# Altium integrated library Analog Devices Data Converters Analog-to-Digital Converters.IntLib: 2400 symbols (part 95 of 338)
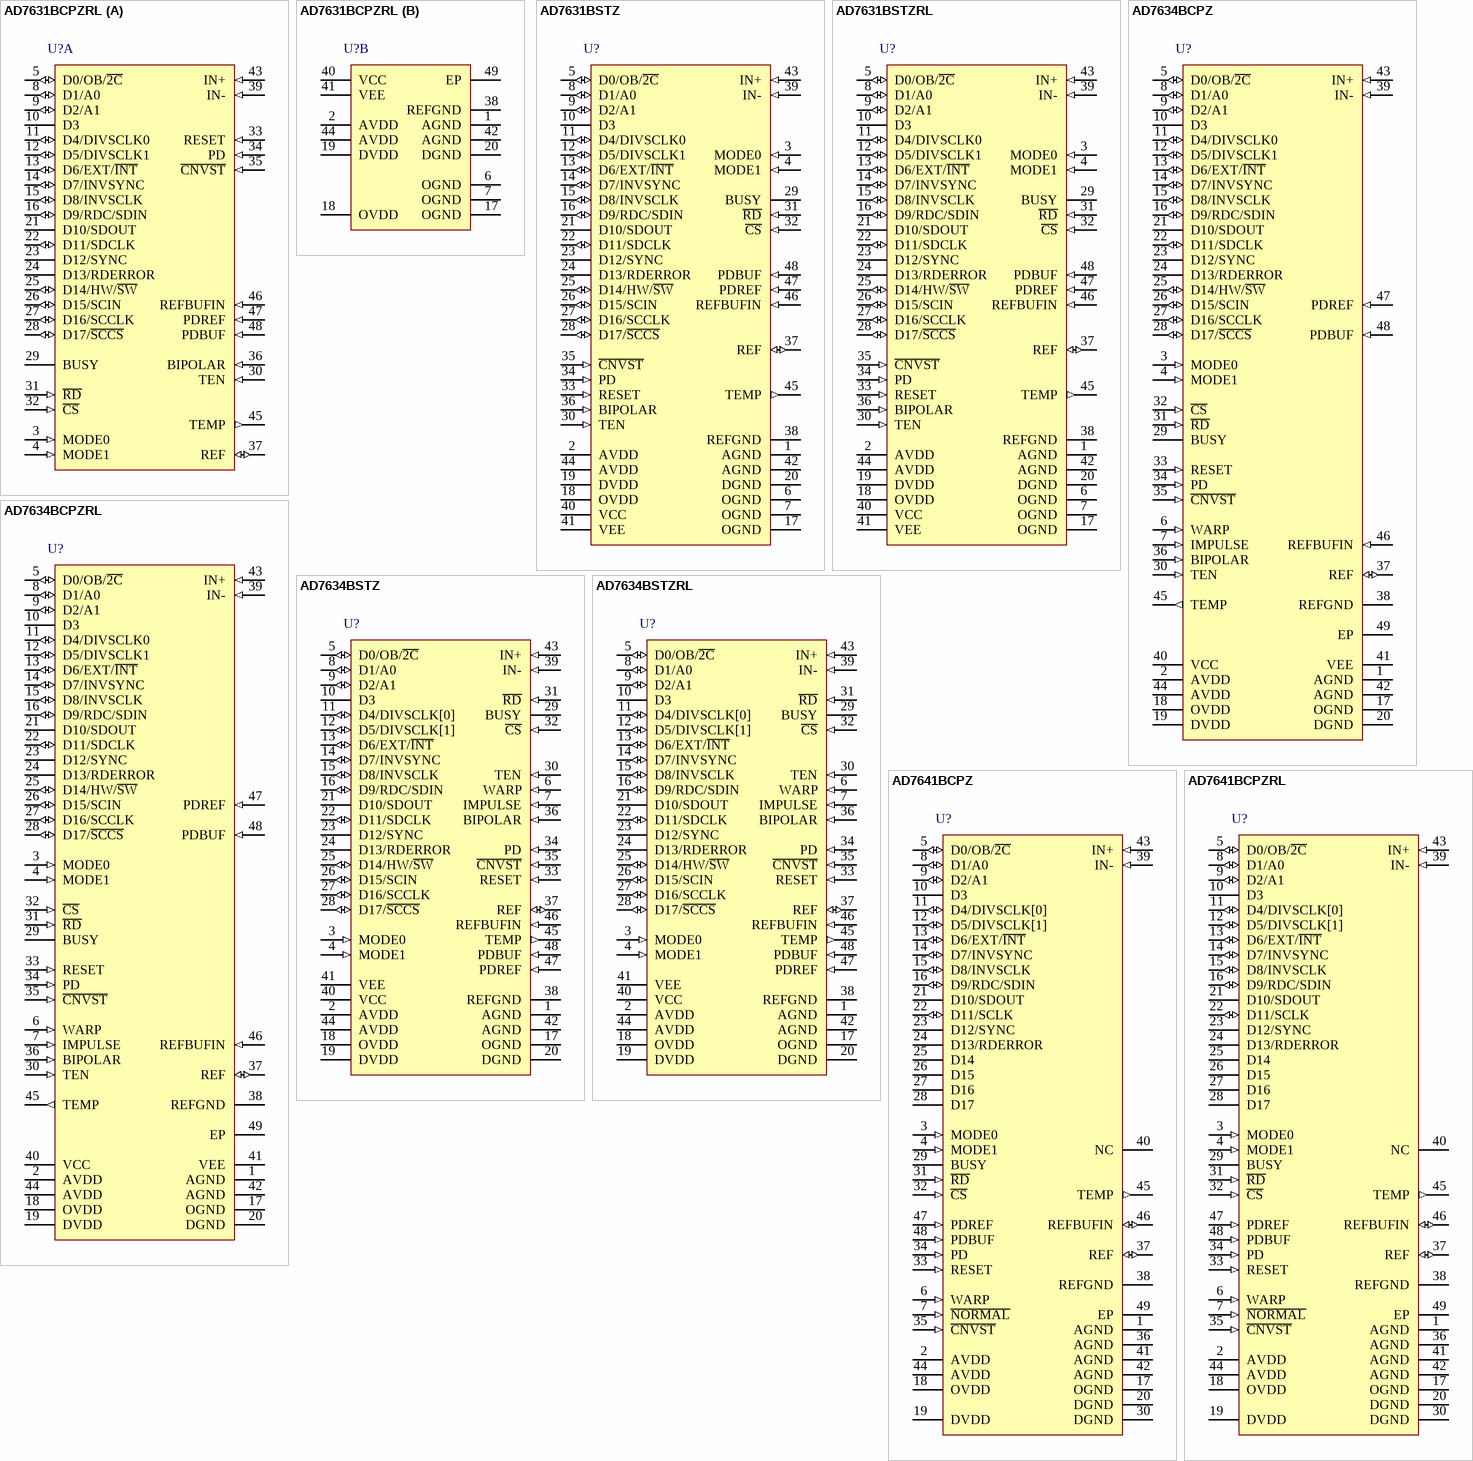
[diagram p210: symbols AD7631BCPZRL to AD7641BCPZRL]

## AD7634BCPZ
designator U?
Single 18-Bit Differential Programmable PulSAR Analog-to-Digital Converter with Byte, Parallel, Serial, SPI Interface, 670KSPS, -40 to +85 degC, CP-48-1, Pb-Free, Tray; Part Number: AD7634; Manufacturer: Analog Devices; Resolution (Bits): 18; Channels: 1; Throughput Rate (SPS): 670K; Interface: Byte, Par, Ser, SPI; DatasheetVersion: Rev.A; PackageVersion: Jan-2005; PackageReference: CP-48-1; PackageDescription: 48-Lead Lead Frame Chip Scale Package [LFCSP_VQ] 7 x 7 mm Body, Very Thin Quad; RoHS: Y; Packing: Tray; Mounting Technology: Surface Mount; Code_JEDEC: MO-220-VKKD-2; ComponentLink1Description: Manufacturer URL; ComponentLink1URL: http://www.analog.com/en/index.html; ComponentLink2Description: Datasheet; ComponentLink2URL: http://www.analog.com/static/imported-files/data_sheets/AD7634.pdf; ComponentLink3Description: Package Specification; ComponentLink3URL: http://www.analog.com/static/imported-files/packages/PKG_PDF/LFCSP(CP)/CP-48/CP_48_1.pdf; ComponentLink4Description: Product URL; ComponentLink4URL: http://www.analog.com/en/analog-to-digital-converters/ad-converters/ad7634/products/product.html
footprint CP-48-1_N (QFN, 48-Leads, Body 7x7mm, Pitch 0.5mm, Thermal Pad 5.1x5.1mm, IPC Medium Density)
footprint CP-48-1_L (QFN, 48-Leads, Body 7x7mm, Pitch 0.5mm, Thermal Pad 5.1x5.1mm, IPC High Density)
footprint CP-48-1_M (QFN, 48-Leads, Body 7x7mm, Pitch 0.5mm, Thermal Pad 5.1x5.1mm, IPC Low Density)
pins: 1 AGND (power) "Analog Power Ground Pins. Ground reference point for all analog I/O. All analog I/O should be referenced to AGND and should be connected to the analog ground plane of the system. In addition, the AGND, DGND, and OGND (See Datasheet)", 2 AVDD (power) "Analog Power Pins. Nominally 4.75 V to 5.25 V and decoupled with 10 uF and 100 nF capacitors.", 3 MODE0 (in) "Data Input/Output Interface Mode Selection.", 4 MODE1 (in) "Data Input/Output Interface Mode Selection.", 5 D0/OB/~{2C} (io) "In 18-bit parallel mode, this output is used as Bit 0 of the parallel port data output bus and the data coding is straight binary. In all other modes, this pin allows the choice of straight binary or twos complement. When (See Datasheet)", 6 WARP (in) "Conversion Mode Selection. See the Modes of Operation section for a more detailed description.", 7 IMPULSE (in) "Conversion Mode Selection. See the WARP pin description in this table. See the Modes of Operation section for a more detailed description.", 8 D1/A0 (io) "When MODE[1:0] = 0, this pin is Bit 1 of the parallel port data output bus. In all other modes, this input pin controls the form in which data is output as shown in Table 7.", 9 D2/A1 (io) "When MODE[1:0] = 0, this pin is Bit 2 of the parallel port data output bus. When MODE[1:0] = 1 or 2, this input pin controls the form in which data is output as shown in Table 7.", 10 D3 (hiz) "When MODE[1:0] = 0, 1, or 2, this output is used as Bit 3 of the parallel port data output bus. This pin is always an output, regardless of the interface mode.", 11 D4/DIVSCLK0 (io) "When MODE[1:0] = 0, 1, or 2, these pins are Bit 4 and Bit 5 of the parallel port data output bus. When MODE[1:0] = 3, serial data clock division selection. When using serial master read after convert mode (EXT/I\N\T\ = low, (See Datasheet)", 12 D5/DIVSCLK1 (io) "When MODE[1:0] = 0, 1, or 2, these pins are Bit 4 and Bit 5 of the parallel port data output bus. When MODE[1:0] = 3, serial data clock division selection. When using serial master read after convert mode (EXT/I\N\T\ = low, (See Datasheet)", 13 D6/EXT/~{INT} (io) "When MODE[1:0] = 0, 1, or 2, this output is used as Bit 6 of the parallel port data output bus. When MODE[1:0] = 3, Serial Data Clock Source Select. In serial mode, this input is used to select the internally generated (See Datasheet)", 14 D7/INVSYNC (io) "When MODE[1:0] = 0, 1, or 2, this output is used as Bit 7 of the parallel port data output bus. When MODE[1:0] = 3, Serial Data Invert Sync Select. In serial master mode (MODE[1:0] = 3, EXT/I\N\T\ = low), this input is used (See Datasheet)", 15 D8/INVSCLK (io) "When MODE[1:0] = 0, 1, or 2, this output is used as Bit 8 of the parallel port data output bus. When MODE[1:0] = 3, Invert SDCLK/SCCLK Select. This input is used to invert both SDCLK and SCCLK. When INVSCLK = low, the rising (See Datasheet)", 16 D9/RDC/SDIN (io) "When MODE[1:0] = 0, 1, or 2, this output is used as Bit 9 of the parallel port data output bus. When MODE[1:0] = 3, Serial Data Read During Convert. In serial master mode (MODE[1:0] = 3, EXT/I\N\T\ = low), RDC is used to (See Datasheet)", 17 OGND (power) "Input/Output Interface Digital Power Ground. Ground reference point for digital outputs. Should be connected to the system digital ground ideally at the same potential as AGND and DGND.", 18 OVDD (power) "Input/Output Interface Digital Power. Nominally at the same supply as the supply of the host interface 2.5 V, 3 V, or 5 V and decoupled with 10 uF and 100 nF capacitors.", 19 DVDD (power) "Digital Power. Nominally at 4.75 V to 5.25 V and decoupled with 10 uF and 100 nF capacitors. Can be supplied from AVDD.", 20 DGND (power) "Digital Power Ground. Ground reference point for digital outputs. Should be connected to system digital ground ideally at the same potential as AGND and OGND.", 21 D10/SDOUT (hiz) "When MODE[1:0] = 0, 1, or 2, this output is used as Bit 10 of the parallel port data output bus. When MODE[1:0] = 3, Serial Data Output. In all serial modes, this pin is used as the serial data output synchronized to SDCLK. (See Datasheet)", 22 D11/SDCLK (io) "When MODE[1:0] = 0, 1, or 2, this output is used as Bit 11 of the parallel port data output bus. When MODE[1:0] = 3, Serial Data Clock. In all serial modes, this pin is used as the serial data clock input or output, (See Datasheet)", 23 D12/SYNC (hiz) "When MODE[1:0] = 0, 1, or 2, this output is used as Bit 12 of the parallel port data output bus. When MODE[1:0] = 3, Serial Data Frame Synchronization. In serial master mode (MODE[1:0] = 3, EXT/I\N\T\= low), this output is (See Datasheet)", 24 D13/RDERROR (hiz) "When MODE[1:0] = 0, 1, or 2, this output is used as Bit 13 of the parallel port data output bus. When MODE[1:0] = 3, Serial Data Read Error. In serial slave mode (MODE[1:0] = 3, EXT/I\N\T\ = high), this output is used as an (See Datasheet)", 25 D14/HW/~{SW} (io) "When MODE[1:0] = 0, 1, or 2, this output is used as Bit 14 of the parallel port data output bus. When MODE[1:0] = 3, Serial Configuration Hardware/Software Select. In serial mode, this input is used to configure the AD7634 (See Datasheet)", 26 D15/SCIN (io) "When MODE[1:0] = 0, 1, or 2, this output is used as Bit 15 of the parallel port data output bus. When MODE[1:0] = 3, Serial Configuration Data Input. In serial software configuration mode (HW/S\W\ = low), this input is used (See Datasheet)", 27 D16/SCCLK (io) "When MODE[1:0] = 0, 1, or 2, this output is used as Bit 16 of the parallel port data output bus. When MODE[1:0] = 3, Serial Configuration Clock. In serial software configuration mode (HW/S\W\ = low), this input is used to (See Datasheet)", 28 D17/~{SCCS} (io) "When MODE[1:0] = 0, 1, or 2, this output is used as Bit 17 of the parallel port data output bus. When MODE[1:0] = 3, Serial Configuration Chip Select. In serial software configuration mode (HW/S\W\ = low), this input enables (See Datasheet)", 29 BUSY (hiz) "Busy Output. Transitions high when a conversion is started and remains high until the conversion is completed and the data is latched into the on-chip shift register. The falling edge of BUSY can be used as a data-ready (See Datasheet)", 30 TEN (in) "Input Range Select.", 31 ~{RD} (in) "Read Data. When C\S\ and R\D\ are both low, the interface parallel or serial output bus is enabled.", 32 ~{CS} (in) "Chip Select. When C\S\ and R\D\ are both low, the interface parallel or serial output bus is enabled. C\S\ is also used to gate the external clock in slave serial mode (not used for serial configurable port).", 33 RESET (in) "Reset Input. When high, reset the AD7634. Current conversion, if any, is aborted. The falling edge of RESET resets the data outputs to all zeros (with OB/2\C\ = high) and clears the configuration register. See the Digital (See Datasheet)", 34 PD (in) "Power-Down Input. When PD = high, power down the ADC. Power consumption is reduced and conversions are inhibited after the current one is completed. The digital interface remains active during power down.", 35 ~{CNVST} (in) "Conversion Start. A falling edge on C\N\V\S\T\ puts the internal sample-and-hold into the hold state and initiates a conversion.", 36 BIPOLAR (in) "Input Range Select. See description for Pin 30.", 37 REF (io) "Reference Input/Output. When PDREF/PDBUF = low, the internal reference and buffer are enabled, produc-ing 5 V on this pin. When PDREF/PDBUF = high, the internal reference and buffer are disabled, allowing an externally (See Datasheet)", 38 REFGND (power) "Reference Input Analog Ground. Connected to analog ground plane.", 39 IN- (in) "Analog Input. Referenced to IN+. In the 0 V to 5 V input range, IN- is between 0 V and VREF V centered about VREF/2. In the 0 V to 10 V range, IN- is between 0 V and 2 VREF V centered about VREF. In the +/-5 V and +/-10 V (See Datasheet)", 40 VCC (power) "High Voltage Positive Supply. Normally 7 V to 15 V.", 41 VEE (power) "High Voltage Negative Supply. Normally 0 V to -15 V (0 V in unipolar ranges).", 42 AGND (power) "Analog Power Ground Pins. Ground reference point for all analog I/O. All analog I/O should be referenced to AGND and should be connected to the analog ground plane of the system. In addition, the AGND, DGND, and OGND (See Datasheet)", 43 IN+ (in) "Analog Input. Referenced to IN-. In the 0 V to 5 V input range, IN+ is between 0 V and VREF V centered about VREF /2. In the 0 V to 10 V range, IN+ is between 0 V and 2 VREF V centered about VREF. In the +/-5 V and +/-10 V (See Datasheet)", 44 AVDD (power) "Analog Power Pins. Nominally 4.75 V to 5.25 V and decoupled with 10 uF and 100 nF capacitors.", 45 TEMP (out) "Temperature Sensor Analog Output. When the internal reference is enabled (PDREF = PDBUF = low), this pin outputs a voltage proportional to the temperature of the AD7634. See the Voltage Reference Input/Output section.", 46 REFBUFIN (in) "Reference Buffer Input. When using an external reference with the internal reference buffer (PDBUF = low, PDREF = high), applying 2.5 V on this pin produces 5 V on the REF pin. See the Voltage Reference Input/Output section.", 47 PDREF (in) "Internal Reference Power-Down Input. When low, the internal reference is enabled. When high, the internal reference is powered down, and an external reference must be used.", 48 PDBUF (in) "Internal Reference Buffer Power-Down Input. When low, the buffer is enabled (must be low when using internal reference). When high, the buffer is powered-down.", 49 EP (power) "Exposed Pad. The exposed pad is not connected internally. It is recommended that the pad be soldered to VEE."

## AD7634BCPZRL
designator U?
Single 18-Bit Differential Programmable PulSAR Analog-to-Digital Converter with Byte, Parallel, Serial, SPI Interface, 670KSPS, -40 to +85 degC, CP-48-1, Pb-Free, Reel; Part Number: AD7634; Manufacturer: Analog Devices; Resolution (Bits): 18; Channels: 1; Throughput Rate (SPS): 670K; Interface: Byte, Par, Ser, SPI; DatasheetVersion: Rev.A; PackageVersion: Jan-2005; PackageReference: CP-48-1; PackageDescription: 48-Lead Lead Frame Chip Scale Package [LFCSP_VQ] 7 x 7 mm Body, Very Thin Quad; RoHS: Y; Packing: Reel; Mounting Technology: Surface Mount; Code_JEDEC: MO-220-VKKD-2; ComponentLink1Description: Manufacturer URL; ComponentLink1URL: http://www.analog.com/en/index.html; ComponentLink2Description: Datasheet; ComponentLink2URL: http://www.analog.com/static/imported-files/data_sheets/AD7634.pdf; ComponentLink3Description: Package Specification; ComponentLink3URL: http://www.analog.com/static/imported-files/packages/PKG_PDF/LFCSP(CP)/CP-48/CP_48_1.pdf; ComponentLink4Description: Product URL; ComponentLink4URL: http://www.analog.com/en/analog-to-digital-converters/ad-converters/ad7634/products/product.html
footprint CP-48-1_N (QFN, 48-Leads, Body 7x7mm, Pitch 0.5mm, Thermal Pad 5.1x5.1mm, IPC Medium Density)
footprint CP-48-1_L (QFN, 48-Leads, Body 7x7mm, Pitch 0.5mm, Thermal Pad 5.1x5.1mm, IPC High Density)
footprint CP-48-1_M (QFN, 48-Leads, Body 7x7mm, Pitch 0.5mm, Thermal Pad 5.1x5.1mm, IPC Low Density)
pins: 1 AGND (power) "Analog Power Ground Pins. Ground reference point for all analog I/O. All analog I/O should be referenced to AGND and should be connected to the analog ground plane of the system. In addition, the AGND, DGND, and OGND (See Datasheet)", 2 AVDD (power) "Analog Power Pins. Nominally 4.75 V to 5.25 V and decoupled with 10 uF and 100 nF capacitors.", 3 MODE0 (in) "Data Input/Output Interface Mode Selection.", 4 MODE1 (in) "Data Input/Output Interface Mode Selection.", 5 D0/OB/~{2C} (io) "In 18-bit parallel mode, this output is used as Bit 0 of the parallel port data output bus and the data coding is straight binary. In all other modes, this pin allows the choice of straight binary or twos complement. When (See Datasheet)", 6 WARP (in) "Conversion Mode Selection. See the Modes of Operation section for a more detailed description.", 7 IMPULSE (in) "Conversion Mode Selection. See the WARP pin description in this table. See the Modes of Operation section for a more detailed description.", 8 D1/A0 (io) "When MODE[1:0] = 0, this pin is Bit 1 of the parallel port data output bus. In all other modes, this input pin controls the form in which data is output as shown in Table 7.", 9 D2/A1 (io) "When MODE[1:0] = 0, this pin is Bit 2 of the parallel port data output bus. When MODE[1:0] = 1 or 2, this input pin controls the form in which data is output as shown in Table 7.", 10 D3 (hiz) "When MODE[1:0] = 0, 1, or 2, this output is used as Bit 3 of the parallel port data output bus. This pin is always an output, regardless of the interface mode.", 11 D4/DIVSCLK0 (io) "When MODE[1:0] = 0, 1, or 2, these pins are Bit 4 and Bit 5 of the parallel port data output bus. When MODE[1:0] = 3, serial data clock division selection. When using serial master read after convert mode (EXT/I\N\T\ = low, (See Datasheet)", 12 D5/DIVSCLK1 (io) "When MODE[1:0] = 0, 1, or 2, these pins are Bit 4 and Bit 5 of the parallel port data output bus. When MODE[1:0] = 3, serial data clock division selection. When using serial master read after convert mode (EXT/I\N\T\ = low, (See Datasheet)", 13 D6/EXT/~{INT} (io) "When MODE[1:0] = 0, 1, or 2, this output is used as Bit 6 of the parallel port data output bus. When MODE[1:0] = 3, Serial Data Clock Source Select. In serial mode, this input is used to select the internally generated (See Datasheet)", 14 D7/INVSYNC (io) "When MODE[1:0] = 0, 1, or 2, this output is used as Bit 7 of the parallel port data output bus. When MODE[1:0] = 3, Serial Data Invert Sync Select. In serial master mode (MODE[1:0] = 3, EXT/I\N\T\ = low), this input is used (See Datasheet)", 15 D8/INVSCLK (io) "When MODE[1:0] = 0, 1, or 2, this output is used as Bit 8 of the parallel port data output bus. When MODE[1:0] = 3, Invert SDCLK/SCCLK Select. This input is used to invert both SDCLK and SCCLK. When INVSCLK = low, the rising (See Datasheet)", 16 D9/RDC/SDIN (io) "When MODE[1:0] = 0, 1, or 2, this output is used as Bit 9 of the parallel port data output bus. When MODE[1:0] = 3, Serial Data Read During Convert. In serial master mode (MODE[1:0] = 3, EXT/I\N\T\ = low), RDC is used to (See Datasheet)", 17 OGND (power) "Input/Output Interface Digital Power Ground. Ground reference point for digital outputs. Should be connected to the system digital ground ideally at the same potential as AGND and DGND.", 18 OVDD (power) "Input/Output Interface Digital Power. Nominally at the same supply as the supply of the host interface 2.5 V, 3 V, or 5 V and decoupled with 10 uF and 100 nF capacitors.", 19 DVDD (power) "Digital Power. Nominally at 4.75 V to 5.25 V and decoupled with 10 uF and 100 nF capacitors. Can be supplied from AVDD.", 20 DGND (power) "Digital Power Ground. Ground reference point for digital outputs. Should be connected to system digital ground ideally at the same potential as AGND and OGND.", 21 D10/SDOUT (hiz) "When MODE[1:0] = 0, 1, or 2, this output is used as Bit 10 of the parallel port data output bus. When MODE[1:0] = 3, Serial Data Output. In all serial modes, this pin is used as the serial data output synchronized to SDCLK. (See Datasheet)", 22 D11/SDCLK (io) "When MODE[1:0] = 0, 1, or 2, this output is used as Bit 11 of the parallel port data output bus. When MODE[1:0] = 3, Serial Data Clock. In all serial modes, this pin is used as the serial data clock input or output, (See Datasheet)", 23 D12/SYNC (hiz) "When MODE[1:0] = 0, 1, or 2, this output is used as Bit 12 of the parallel port data output bus. When MODE[1:0] = 3, Serial Data Frame Synchronization. In serial master mode (MODE[1:0] = 3, EXT/I\N\T\= low), this output is (See Datasheet)", 24 D13/RDERROR (hiz) "When MODE[1:0] = 0, 1, or 2, this output is used as Bit 13 of the parallel port data output bus. When MODE[1:0] = 3, Serial Data Read Error. In serial slave mode (MODE[1:0] = 3, EXT/I\N\T\ = high), this output is used as an (See Datasheet)", 25 D14/HW/~{SW} (io) "When MODE[1:0] = 0, 1, or 2, this output is used as Bit 14 of the parallel port data output bus. When MODE[1:0] = 3, Serial Configuration Hardware/Software Select. In serial mode, this input is used to configure the AD7634 (See Datasheet)", 26 D15/SCIN (io) "When MODE[1:0] = 0, 1, or 2, this output is used as Bit 15 of the parallel port data output bus. When MODE[1:0] = 3, Serial Configuration Data Input. In serial software configuration mode (HW/S\W\ = low), this input is used (See Datasheet)", 27 D16/SCCLK (io) "When MODE[1:0] = 0, 1, or 2, this output is used as Bit 16 of the parallel port data output bus. When MODE[1:0] = 3, Serial Configuration Clock. In serial software configuration mode (HW/S\W\ = low), this input is used to (See Datasheet)", 28 D17/~{SCCS} (io) "When MODE[1:0] = 0, 1, or 2, this output is used as Bit 17 of the parallel port data output bus. When MODE[1:0] = 3, Serial Configuration Chip Select. In serial software configuration mode (HW/S\W\ = low), this input enables (See Datasheet)", 29 BUSY (hiz) "Busy Output. Transitions high when a conversion is started and remains high until the conversion is completed and the data is latched into the on-chip shift register. The falling edge of BUSY can be used as a data-ready (See Datasheet)", 30 TEN (in) "Input Range Select.", 31 ~{RD} (in) "Read Data. When C\S\ and R\D\ are both low, the interface parallel or serial output bus is enabled.", 32 ~{CS} (in) "Chip Select. When C\S\ and R\D\ are both low, the interface parallel or serial output bus is enabled. C\S\ is also used to gate the external clock in slave serial mode (not used for serial configurable port).", 33 RESET (in) "Reset Input. When high, reset the AD7634. Current conversion, if any, is aborted. The falling edge of RESET resets the data outputs to all zeros (with OB/2\C\ = high) and clears the configuration register. See the Digital (See Datasheet)", 34 PD (in) "Power-Down Input. When PD = high, power down the ADC. Power consumption is reduced and conversions are inhibited after the current one is completed. The digital interface remains active during power down.", 35 ~{CNVST} (in) "Conversion Start. A falling edge on C\N\V\S\T\ puts the internal sample-and-hold into the hold state and initiates a conversion.", 36 BIPOLAR (in) "Input Range Select. See description for Pin 30.", 37 REF (io) "Reference Input/Output. When PDREF/PDBUF = low, the internal reference and buffer are enabled, produc-ing 5 V on this pin. When PDREF/PDBUF = high, the internal reference and buffer are disabled, allowing an externally (See Datasheet)", 38 REFGND (power) "Reference Input Analog Ground. Connected to analog ground plane.", 39 IN- (in) "Analog Input. Referenced to IN+. In the 0 V to 5 V input range, IN- is between 0 V and VREF V centered about VREF/2. In the 0 V to 10 V range, IN- is between 0 V and 2 VREF V centered about VREF. In the +/-5 V and +/-10 V (See Datasheet)", 40 VCC (power) "High Voltage Positive Supply. Normally 7 V to 15 V.", 41 VEE (power) "High Voltage Negative Supply. Normally 0 V to -15 V (0 V in unipolar ranges).", 42 AGND (power) "Analog Power Ground Pins. Ground reference point for all analog I/O. All analog I/O should be referenced to AGND and should be connected to the analog ground plane of the system. In addition, the AGND, DGND, and OGND (See Datasheet)", 43 IN+ (in) "Analog Input. Referenced to IN-. In the 0 V to 5 V input range, IN+ is between 0 V and VREF V centered about VREF /2. In the 0 V to 10 V range, IN+ is between 0 V and 2 VREF V centered about VREF. In the +/-5 V and +/-10 V (See Datasheet)", 44 AVDD (power) "Analog Power Pins. Nominally 4.75 V to 5.25 V and decoupled with 10 uF and 100 nF capacitors.", 45 TEMP (out) "Temperature Sensor Analog Output. When the internal reference is enabled (PDREF = PDBUF = low), this pin outputs a voltage proportional to the temperature of the AD7634. See the Voltage Reference Input/Output section.", 46 REFBUFIN (in) "Reference Buffer Input. When using an external reference with the internal reference buffer (PDBUF = low, PDREF = high), applying 2.5 V on this pin produces 5 V on the REF pin. See the Voltage Reference Input/Output section.", 47 PDREF (in) "Internal Reference Power-Down Input. When low, the internal reference is enabled. When high, the internal reference is powered down, and an external reference must be used.", 48 PDBUF (in) "Internal Reference Buffer Power-Down Input. When low, the buffer is enabled (must be low when using internal reference). When high, the buffer is powered-down.", 49 EP (power) "Exposed Pad. The exposed pad is not connected internally. It is recommended that the pad be soldered to VEE."

## AD7634BSTZ
designator U?
Single 18-Bit Differential Programmable PulSAR Analog-to-Digital Converter with Byte, Parallel, Serial, SPI Interface, 670KSPS, -40 to +85 degC, ST-48, Pb-Free, Tray; Part Number: AD7634; Manufacturer: Analog Devices; Resolution (Bits): 18; Channels: 1; Throughput Rate (SPS): 670K; Interface: Byte, Par, Ser, SPI; DatasheetVersion: Rev.A; PackageVersion: revA; PackageReference: ST-48; PackageDescription: 48-Pin Thin Quad Flat Pack 0.5 mm Pitch; RoHS: Y; Packing: Tray; Mounting Technology: Surface Mount; ComponentLink1Description: Manufacturer URL; ComponentLink1URL: http://www.analog.com/en/index.html; ComponentLink2Description: Datasheet; ComponentLink2URL: http://www.analog.com/static/imported-files/data_sheets/AD7634.pdf; ComponentLink3Description: Package Specification; ComponentLink3URL: http://www.analog.com/static/imported-files/packages/PKG_PDF/LQFP%28ST%29/ST_48.pdf; ComponentLink4Description: Product URL; ComponentLink4URL: http://www.analog.com/en/analog-to-digital-converters/ad-converters/ad7634/products/product.html
footprint ST-48_N (Thin QFP, 48-Leads, Body 7x7mm, Pitch 0.5mm, IPC Medium Density)
footprint ST-48_L (Thin QFP, 48-Leads, Body 7x7mm, Pitch 0.5mm, IPC High Density)
footprint ST-48_M (Thin QFP, 48-Leads, Body 7x7mm, Pitch 0.5mm, IPC Low Density)
pins: 1 AGND (power) "Analog Power Ground Pins. Ground reference point for all analog I/O. All analog I/O should be refer enced to AGND and should be connected to the analog ground plane of the system. In addition, the  AGND, DGND, and OGND (See Datasheet)", 2 AVDD (power) "Analog Power Pins. Nominally 4.75 V to 5.25 V and decoupled with 10 uF and 100 nF capacitors.", 3 MODE0 (in) "Data Input/Output Interface Mode Selection.", 4 MODE1 (in) "Data Input/Output Interface Mode Selection.", 5 D0/OB/~{2C} (io) "In 18-bit parallel mode, this output is used as Bit 0 of the parallel port data output bus and the data coding is straight binary. In all other modes, this pin allows the choice of straight binary or twos complement.  When (See Datasheet)", 6 WARP (in) "Conversion Mode Selection. See the Modes of Operation section for a more detailed description.", 7 IMPULSE (in) "Conversion Mode Selection. See the WARP pin description in this table. See the Modes of Operation section for a more detailed description.", 8 D1/A0 (io) "When MODE[1:0] = 0, this pin is Bit 1 of the parallel port data output bus. In all other modes, this  input pin controls the form in which data is output as shown in Table 7.", 9 D2/A1 (io) "When MODE[1:0] = 0, this pin is Bit 2 of the parallel port data output bus, When MODE[1:0] = 1 or 2, this input pin controls the form in which data is output as shown in Table 7.", 10 D3 (hiz) "When MODE[1:0] = 0, 1, or 2, this output is used as Bit 3 of the parallel port data output bus.  This pin is always an output, regardless of the interface mode.", 11 D4/DIVSCLK[0] (io) "When MODE[1:0] = 0, 1, or 2, these pins are Bit 4 and Bit 5 of the parallel port data output bus. When MODE[1:0] = 3, serial data clock division selection. When using serial master read after convert mode (EXT/I\N\T\ = low, (See Datasheet)", 12 D5/DIVSCLK[1] (io) "When MODE[1:0] = 0, 1, or 2, these pins are Bit 4 and Bit 5 of the parallel port data output bus. When MODE[1:0] = 3, serial data clock division selection. When using serial master read after conver tmode (EXT/I\N\T\ = low, (See Datasheet)", 13 D6/EXT/~{INT} (io) "When MODE[1:0] = 0, 1, or 2, this output is used as Bit 6 of the parallel port data output bus.When MODE[1:0] = 3, Serial Data Clock Source Select. In serial mode, this input is used to selectthe internally generated (See Datasheet)", 14 D7/INVSYNC (io) "When MODE[1:0] = 0, 1, or 2, this output is used as Bit 7 of the parallel port data output bus.When MODE[1:0] = 3, Serial Data Invert Sync Select. In serial master mode (MODE[1:0] = 3,  EXT/I\N\T\ = low), this input is used (See Datasheet)", 15 D8/INVSCLK (io) "When MODE[1:0] = 0, 1, or 2, this output is used as Bit 8 of the parallel port data output bus.When MODE[1:0] = 3, Invert SDCLK/SCCLK Select. This input is used to invert both SDCLK and SCCLK.When INVSCLK = low, the rising (See Datasheet)", 16 D9/RDC/SDIN (io) "When MODE[1:0] = 0, 1, or 2, this output is used as Bit 9 of the parallel port data output bus.  When MODE[1:0] = 3, Serial Data Read During Convert. In serial master mode (MODE[1:0] = 3, EXT/I\N\T\= low), RDC is used to (See Datasheet)", 17 OGND (power) "Input/Output Interface Digital Power Ground. Ground reference point for digital outputs. Should be connected to the system digital ground ideally at the same potential as AGND and DGND.", 18 OVDD (power) "Input/Output Interface Digital Power. Nominally at the same supply as the supply of the host interface 2.5 V, 3 V, or 5 V and decoupled with 10 uF and 100 nF capacitors.", 19 DVDD (power) "Digital Power. Nominally at 4.75 V to 5.25 V and decoupled with 10 uF and 100 nF capacitors. Can be supplied from AVDD.", 20 DGND (power) "Digital Power Ground. Ground reference point for digital outputs. Should be connected to system digital ground ideally at the same potential as AGND and OGND.", 21 D10/SDOUT (hiz) "When MODE[1:0] = 0, 1, or 2, this output is used as Bit 10 of the parallel port data output bus.When MODE[1:0] = 3, Serial Data Output. In all serial modes, this pin is used as the serial data outputsynchronized to SDCLK. (See Datasheet)", 22 D11/SDCLK (io) "When MODE[1:0] = 0, 1, or 2, this output is used as Bit 11 of the parallel port data output bus.When MODE[1:0] = 3, Serial Data Clock. In all serial modes, this pin is used as the serial data clock inputor output, dependent (See Datasheet)", 23 D12/SYNC (hiz) "When MODE[1:0] = 0, 1, or 2, this output is used as Bit 12 of the parallel port data output bus. When MODE[1:0] = 3, Serial Data Frame Synchronization. In serial master mode (MODE[1:0] = 3EXT/I\N\T\= low), this output is (See Datasheet)", 24 D13/RDERROR (hiz) "When MODE[1:0] = 0, 1, or 2, this output is used as Bit 13 of the parallel port data output bus.When MODE[1:0] = 3, Serial Data Read Error. In serial slave mode (MODE[1:0] = 3, EXT/I\N\T\= high), this output is used as an (See Datasheet)", 25 D14/HW/~{SW} (io) "When MODE[1:0] = 0, 1, or 2, this output is used as Bit 14 of the parallel port data output bus.When MODE[1:0] = 3, Serial Configuration Hardware/Software Select. In serial mode, this input is usedto configure the AD7634 by (See Datasheet)", 26 D15/SCIN (io) "When MODE[1:0] = 0, 1, or 2, this output is used as Bit 15 of the parallel port data output bus.When MODE[1:0] = 3, Serial Configuration Data Input. In serial software configuration mode (HW/S\W\ =low), this input is used to (See Datasheet)", 27 D16/SCCLK (io) "When MODE[1:0] = 0, 1, or 2, this output is used as Bit 16 of the parallel port data output bus.When MODE[1:0] = 3, Serial Configuration Clock. In serial software configuration mode (HW/S\W \= low), this input is used to (See Datasheet)", 28 D17/~{SCCS} (io) "When MODE[1:0] = 0, 1, or 2, this output is used as Bit 17 of the parallel port data output bus. When MODE[1:0] = 3, Serial Configuration Chip Select. In serial software configuration mode  (HW/S\W\ = low), this input (See Datasheet)", 29 BUSY (hiz) "Busy Output. Transitions high when a conversion is started and remains high until the conversionis completed and the data is latched into the on-chip shift register. The falling edge of BUSY can beused as a data-ready clock (See Datasheet)", 30 TEN (in) "Input Range Select.", 31 ~{RD} (in) "Read Data. When C\S \and R\D\are both low, the interface parallel or serial output bus is enabled.", 32 ~{CS} (in) "Chip Select. When C\S\ and R\D\ are both low, the interface parallel or serial output bus is enabled. C\S \isalso used to gate the external clock in slave serial mode (not used for serial configurable port).", 33 RESET (in) "Reset Input. When high, reset the AD7634. Current conversion, if any, is aborted. The falling edge of  RESET resets the data outputs to all zeros (with OB/2\C \= high) and clears the configuration register. See the Digital (See Datasheet)", 34 PD (in) "Power-Down Input. When PD = high, power down the ADC. Power consumption is reduced and conversions are inhibited after the current one is completed. The digital interface remains active during power down.", 35 ~{CNVST} (in) "Conversion Start. A falling edge on C\N\V\S\T\ puts the internal sample-and-hold into the hold state and initiates a conversion.", 36 BIPOLAR (in) "Input Range Select. See description for Pin 30.", 37 REF (io) "Reference Input/Output. When PDREF/PDBUF = low, the internal reference and buffer are enabled, produc-ing 5 V on this pin. When PDREF/PDBUF = high, the internal reference and buffer are disabled, allowing an externally (See Datasheet)", 38 REFGND (power) "Reference Input Analog Ground. Connected to analog ground plane.", 39 IN- (in) "Analog Input. Referenced to IN+. In the 0 V to 5 V input range, IN- is between 0 V and VREF V centered about VREF/2. In the 0 V to 10 V range, IN- is between 0 V and 2 VREF V centered about VREF. In the +/-5 V and +/-10 V (See Datasheet)", 40 VCC (power) "High Voltage Positive Supply. Normally 7 V to 15 V.", 41 VEE (power) "High Voltage Negative Supply. Normally 0 V to -15 V (0 V in unipolar ranges).", 42 AGND (power) "Analog Power Ground Pins. Ground reference point for all analog I/O. All analog I/O should be refer enced to AGND and should be connected to the analog ground plane of the system. In addition, the  AGND, DGND, and OGND (See Datasheet)", 43 IN+ (in) "Analog Input. Referenced to IN-. In the 0 V to 5 V input range, IN+ is between 0 V and VREF V centered about VREF /2. In the 0 V to 10 V range, IN+ is between 0 V and 2 VREF V centered about VREF. In the +/-5 V and +/-10 V (See Datasheet)", 44 AVDD (power) "Analog Power Pins. Nominally 4.75 V to 5.25 V and decoupled with 10 uF and 100 nF capacitors.", 45 TEMP (out) "Temperature Sensor Analog Output. When the internal reference is enabled (PDREF = PDBUF = low), this pin outputs a voltage proportional to the temperature of the AD7634. See the Voltage Reference Input/Output section.", 46 REFBUFIN (in) "Reference Buffer Input. When using an external reference with the internal reference buffer (PDBUF = low, PDREF = high), applying 2.5 V on this pin produces 5 V on the REF pin. See the Voltage Reference Input/Output section.", 47 PDREF (in) "Internal Reference Power-Down Input.When low, the internal reference is enabled When high, the internal reference is powered down, and an external reference must be used.", 48 PDBUF (in) "Internal Reference Buffer Power-Down Input.When low, the buffer is enabled (must be low when using internal reference).When high, the buffer is powered-down."

## AD7634BSTZRL
designator U?
Single 18-Bit Differential Programmable PulSAR Analog-to-Digital Converter with Byte, Parallel, Serial, SPI Interface, 670KSPS, -40 to +85 degC, ST-48, Pb-Free, Reel; Part Number: AD7634; Manufacturer: Analog Devices; Resolution (Bits): 18; Channels: 1; Throughput Rate (SPS): 670K; Interface: Byte, Par, Ser, SPI; DatasheetVersion: Rev.A; PackageVersion: revA; PackageReference: ST-48; PackageDescription: 48-Pin Thin Quad Flat Pack 0.5 mm Pitch; RoHS: Y; Packing: Reel; Mounting Technology: Surface Mount; ComponentLink1Description: Manufacturer URL; ComponentLink1URL: http://www.analog.com/en/index.html; ComponentLink2Description: Datasheet; ComponentLink2URL: http://www.analog.com/static/imported-files/data_sheets/AD7634.pdf; ComponentLink3Description: Package Specification; ComponentLink3URL: http://www.analog.com/static/imported-files/packages/PKG_PDF/LQFP%28ST%29/ST_48.pdf; ComponentLink4Description: Product URL; ComponentLink4URL: http://www.analog.com/en/analog-to-digital-converters/ad-converters/ad7634/products/product.html
footprint ST-48_N (Thin QFP, 48-Leads, Body 7x7mm, Pitch 0.5mm, IPC Medium Density)
footprint ST-48_L (Thin QFP, 48-Leads, Body 7x7mm, Pitch 0.5mm, IPC High Density)
footprint ST-48_M (Thin QFP, 48-Leads, Body 7x7mm, Pitch 0.5mm, IPC Low Density)
pins: 1 AGND (power) "Analog Power Ground Pins. Ground reference point for all analog I/O. All analog I/O should be refer enced to AGND and should be connected to the analog ground plane of the system. In addition, the  AGND, DGND, and OGND (See Datasheet)", 2 AVDD (power) "Analog Power Pins. Nominally 4.75 V to 5.25 V and decoupled with 10 uF and 100 nF capacitors.", 3 MODE0 (in) "Data Input/Output Interface Mode Selection.", 4 MODE1 (in) "Data Input/Output Interface Mode Selection.", 5 D0/OB/~{2C} (io) "In 18-bit parallel mode, this output is used as Bit 0 of the parallel port data output bus and the data coding is straight binary. In all other modes, this pin allows the choice of straight binary or twos complement.  When (See Datasheet)", 6 WARP (in) "Conversion Mode Selection. See the Modes of Operation section for a more detailed description.", 7 IMPULSE (in) "Conversion Mode Selection. See the WARP pin description in this table. See the Modes of Operation section for a more detailed description.", 8 D1/A0 (io) "When MODE[1:0] = 0, this pin is Bit 1 of the parallel port data output bus. In all other modes, this  input pin controls the form in which data is output as shown in Table 7.", 9 D2/A1 (io) "When MODE[1:0] = 0, this pin is Bit 2 of the parallel port data output bus, When MODE[1:0] = 1 or 2, this input pin controls the form in which data is output as shown in Table 7.", 10 D3 (hiz) "When MODE[1:0] = 0, 1, or 2, this output is used as Bit 3 of the parallel port data output bus.  This pin is always an output, regardless of the interface mode.", 11 D4/DIVSCLK[0] (io) "When MODE[1:0] = 0, 1, or 2, these pins are Bit 4 and Bit 5 of the parallel port data output bus. When MODE[1:0] = 3, serial data clock division selection. When using serial master read after convert mode (EXT/I\N\T\ = low, (See Datasheet)", 12 D5/DIVSCLK[1] (io) "When MODE[1:0] = 0, 1, or 2, these pins are Bit 4 and Bit 5 of the parallel port data output bus. When MODE[1:0] = 3, serial data clock division selection. When using serial master read after conver tmode (EXT/I\N\T\ = low, (See Datasheet)", 13 D6/EXT/~{INT} (io) "When MODE[1:0] = 0, 1, or 2, this output is used as Bit 6 of the parallel port data output bus.When MODE[1:0] = 3, Serial Data Clock Source Select. In serial mode, this input is used to selectthe internally generated (See Datasheet)", 14 D7/INVSYNC (io) "When MODE[1:0] = 0, 1, or 2, this output is used as Bit 7 of the parallel port data output bus.When MODE[1:0] = 3, Serial Data Invert Sync Select. In serial master mode (MODE[1:0] = 3,  EXT/I\N\T\ = low), this input is used (See Datasheet)", 15 D8/INVSCLK (io) "When MODE[1:0] = 0, 1, or 2, this output is used as Bit 8 of the parallel port data output bus.When MODE[1:0] = 3, Invert SDCLK/SCCLK Select. This input is used to invert both SDCLK and SCCLK.When INVSCLK = low, the rising (See Datasheet)", 16 D9/RDC/SDIN (io) "When MODE[1:0] = 0, 1, or 2, this output is used as Bit 9 of the parallel port data output bus.  When MODE[1:0] = 3, Serial Data Read During Convert. In serial master mode (MODE[1:0] = 3, EXT/I\N\T\= low), RDC is used to (See Datasheet)", 17 OGND (power) "Input/Output Interface Digital Power Ground. Ground reference point for digital outputs. Should be connected to the system digital ground ideally at the same potential as AGND and DGND.", 18 OVDD (power) "Input/Output Interface Digital Power. Nominally at the same supply as the supply of the host interface 2.5 V, 3 V, or 5 V and decoupled with 10 uF and 100 nF capacitors.", 19 DVDD (power) "Digital Power. Nominally at 4.75 V to 5.25 V and decoupled with 10 uF and 100 nF capacitors. Can be supplied from AVDD.", 20 DGND (power) "Digital Power Ground. Ground reference point for digital outputs. Should be connected to system digital ground ideally at the same potential as AGND and OGND.", 21 D10/SDOUT (hiz) "When MODE[1:0] = 0, 1, or 2, this output is used as Bit 10 of the parallel port data output bus.When MODE[1:0] = 3, Serial Data Output. In all serial modes, this pin is used as the serial data outputsynchronized to SDCLK. (See Datasheet)", 22 D11/SDCLK (io) "When MODE[1:0] = 0, 1, or 2, this output is used as Bit 11 of the parallel port data output bus.When MODE[1:0] = 3, Serial Data Clock. In all serial modes, this pin is used as the serial data clock inputor output, dependent (See Datasheet)", 23 D12/SYNC (hiz) "When MODE[1:0] = 0, 1, or 2, this output is used as Bit 12 of the parallel port data output bus. When MODE[1:0] = 3, Serial Data Frame Synchronization. In serial master mode (MODE[1:0] = 3EXT/I\N\T\= low), this output is (See Datasheet)", 24 D13/RDERROR (hiz) "When MODE[1:0] = 0, 1, or 2, this output is used as Bit 13 of the parallel port data output bus.When MODE[1:0] = 3, Serial Data Read Error. In serial slave mode (MODE[1:0] = 3, EXT/I\N\T\= high), this output is used as an (See Datasheet)", 25 D14/HW/~{SW} (io) "When MODE[1:0] = 0, 1, or 2, this output is used as Bit 14 of the parallel port data output bus.When MODE[1:0] = 3, Serial Configuration Hardware/Software Select. In serial mode, this input is usedto configure the AD7634 by (See Datasheet)", 26 D15/SCIN (io) "When MODE[1:0] = 0, 1, or 2, this output is used as Bit 15 of the parallel port data output bus.When MODE[1:0] = 3, Serial Configuration Data Input. In serial software configuration mode (HW/S\W\ =low), this input is used to (See Datasheet)", 27 D16/SCCLK (io) "When MODE[1:0] = 0, 1, or 2, this output is used as Bit 16 of the parallel port data output bus.When MODE[1:0] = 3, Serial Configuration Clock. In serial software configuration mode (HW/S\W \= low), this input is used to (See Datasheet)", 28 D17/~{SCCS} (io) "When MODE[1:0] = 0, 1, or 2, this output is used as Bit 17 of the parallel port data output bus. When MODE[1:0] = 3, Serial Configuration Chip Select. In serial software configuration mode  (HW/S\W\ = low), this input (See Datasheet)", 29 BUSY (hiz) "Busy Output. Transitions high when a conversion is started and remains high until the conversionis completed and the data is latched into the on-chip shift register. The falling edge of BUSY can beused as a data-ready clock (See Datasheet)", 30 TEN (in) "Input Range Select.", 31 ~{RD} (in) "Read Data. When C\S \and R\D\are both low, the interface parallel or serial output bus is enabled.", 32 ~{CS} (in) "Chip Select. When C\S\ and R\D\ are both low, the interface parallel or serial output bus is enabled. C\S \isalso used to gate the external clock in slave serial mode (not used for serial configurable port).", 33 RESET (in) "Reset Input. When high, reset the AD7634. Current conversion, if any, is aborted. The falling edge of  RESET resets the data outputs to all zeros (with OB/2\C \= high) and clears the configuration register. See the Digital (See Datasheet)", 34 PD (in) "Power-Down Input. When PD = high, power down the ADC. Power consumption is reduced and conversions are inhibited after the current one is completed. The digital interface remains active during power down.", 35 ~{CNVST} (in) "Conversion Start. A falling edge on C\N\V\S\T\ puts the internal sample-and-hold into the hold state and initiates a conversion.", 36 BIPOLAR (in) "Input Range Select. See description for Pin 30.", 37 REF (io) "Reference Input/Output. When PDREF/PDBUF = low, the internal reference and buffer are enabled, produc-ing 5 V on this pin. When PDREF/PDBUF = high, the internal reference and buffer are disabled, allowing an externally (See Datasheet)", 38 REFGND (power) "Reference Input Analog Ground. Connected to analog ground plane.", 39 IN- (in) "Analog Input. Referenced to IN+. In the 0 V to 5 V input range, IN- is between 0 V and VREF V centered about VREF/2. In the 0 V to 10 V range, IN- is between 0 V and 2 VREF V centered about VREF. In the +/-5 V and +/-10 V (See Datasheet)", 40 VCC (power) "High Voltage Positive Supply. Normally 7 V to 15 V.", 41 VEE (power) "High Voltage Negative Supply. Normally 0 V to -15 V (0 V in unipolar ranges).", 42 AGND (power) "Analog Power Ground Pins. Ground reference point for all analog I/O. All analog I/O should be refer enced to AGND and should be connected to the analog ground plane of the system. In addition, the  AGND, DGND, and OGND (See Datasheet)", 43 IN+ (in) "Analog Input. Referenced to IN-. In the 0 V to 5 V input range, IN+ is between 0 V and VREF V centered about VREF /2. In the 0 V to 10 V range, IN+ is between 0 V and 2 VREF V centered about VREF. In the +/-5 V and +/-10 V (See Datasheet)", 44 AVDD (power) "Analog Power Pins. Nominally 4.75 V to 5.25 V and decoupled with 10 uF and 100 nF capacitors.", 45 TEMP (out) "Temperature Sensor Analog Output. When the internal reference is enabled (PDREF = PDBUF = low), this pin outputs a voltage proportional to the temperature of the AD7634. See the Voltage Reference Input/Output section.", 46 REFBUFIN (in) "Reference Buffer Input. When using an external reference with the internal reference buffer (PDBUF = low, PDREF = high), applying 2.5 V on this pin produces 5 V on the REF pin. See the Voltage Reference Input/Output section.", 47 PDREF (in) "Internal Reference Power-Down Input.When low, the internal reference is enabled When high, the internal reference is powered down, and an external reference must be used.", 48 PDBUF (in) "Internal Reference Buffer Power-Down Input.When low, the buffer is enabled (must be low when using internal reference).When high, the buffer is powered-down."